# Altium footprint library Cooling.PcbLib: 1 footprints
Each footprint in its own frame and in the unit in brackets; x right, y up, seen from the top. Pads: shape width x height; smd on the part's side, far side on the other; paste and mask are expansions set on the pad; w line width, h text height; cw(c..) or ccw(c..) is an arc to the next point about the centre after c.
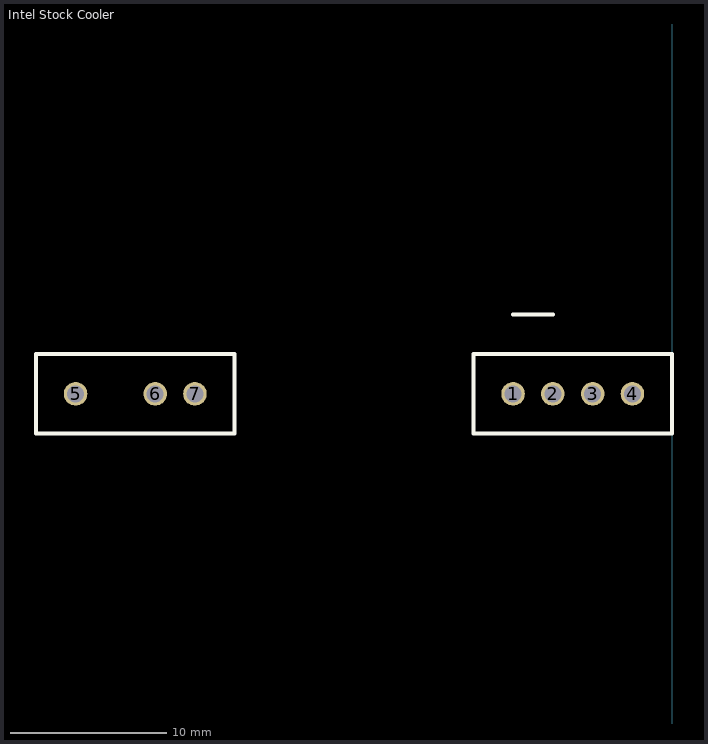
[diagram p0: the footprint, top view; thin cyan lines are the x and y axes]

## Intel Stock Cooler [mm]
pads (7):
  round 1.5 hole 1.1: 1(-10.16,66.04) 2(-7.62,66.04) 3(-5.08,66.04) 4(-2.54,66.04) 5(-38.1,66.04) 6(-33.02,66.04) 7(-30.48,66.04)
via -38.786,-39.028 diameter 10 hole 5
via 39.134,-38.978 diameter 10 hole 5
via 38.903,38.977 diameter 10 hole 5
via -38.768,38.965 diameter 10 hole 5
Top Overlay:
  lines w0.254: -10.16,71.12 -7.62,71.12 ; -40.64,63.5 -40.64,68.58 -27.94,68.58 -27.94,63.5 -40.64,63.5 ; -12.7,63.5 0,63.5 0,68.58 -12.7,68.58 -12.7,63.5
3D body "Intel cooler.step": height 68.5, standoff -3.5, extent -52.208,-52.208 52.208,52.208
3D body "Header 1.step": height 13.04, standoff -2.5, extent -39.356,64.692 -36.816,67.232
3D body "Header 2.step": height 13.04, standoff -2.5, extent -34.248,64.685 -29.168,67.225
3D body "Header 4.step": height 13.04, standoff -2.5, extent -11.439,64.727 -1.279,67.267